# Altium footprint library InactivityTracker.PcbLib: 5 footprints
Each footprint in its own frame and in the unit in brackets; x right, y up, seen from the top. Pads: shape width x height; smd on the part's side, far side on the other; paste and mask are expansions set on the pad; w line width, h text height; cw(c..) or ccw(c..) is an arc to the next point about the centre after c.
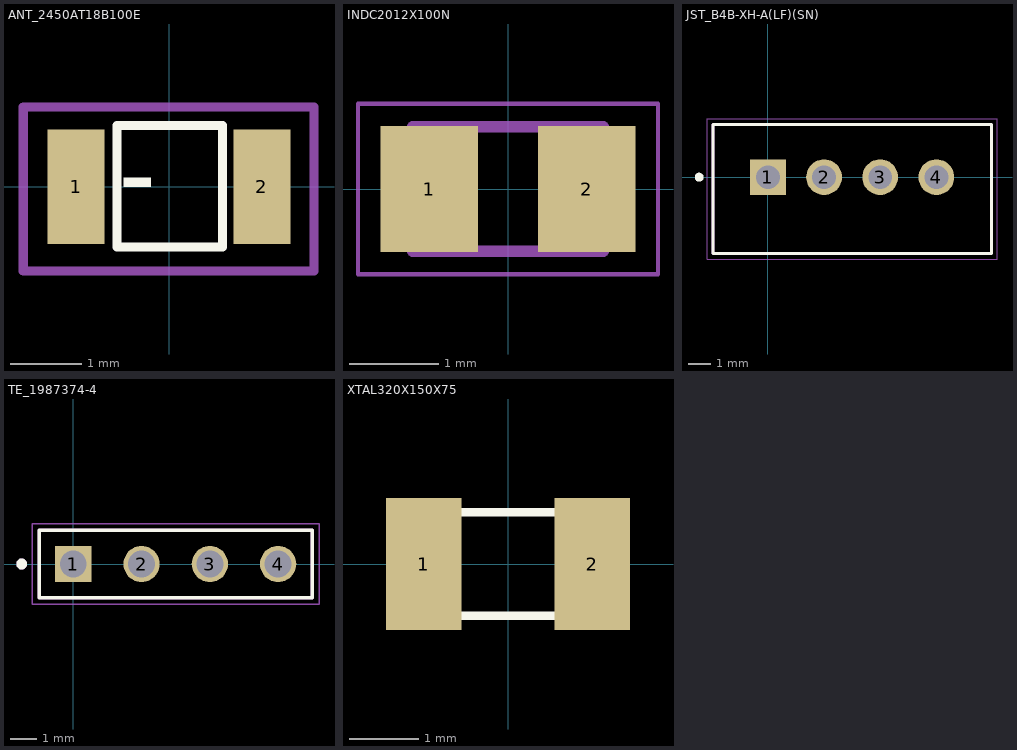
[diagram p0: the footprints below, top view; thin cyan lines are the x and y axes]

## ANT_2450AT18B100E [mm]
pads (2):
  rect 0.8x1.6 smd: 1(-1.3,0) 2(1.3,0)
Top Overlay:
  region: -0.254,0 -0.635,0 -0.635,0.127 -0.254,0.127
  lines w0.127: -0.73,-0.84 -0.73,0.86 0.75,0.86 0.75,-0.84 -0.73,-0.84
Mechanical 15:
  lines w0.127: -2.04,1.12 -2.04,-1.18 2.03,-1.18 2.03,1.12 -2,1.12
3D body "2450AT18B100E--3DModel-STEP-56544.STEP": height 0.8, standoff -0.8, extent -1.6,-0.698 1.6,0.699

## INDC2012X100N [mm]
pads (2):
  rect 1.1x1.42 smd: 1(-0.885,0) 2(0.885,0)
Mechanical 13:
  lines w0.127: -1.07,-0.7 -1.07,0.7 1.07,0.7 1.07,-0.7 -1.07,-0.7
Mechanical 15:
  lines w0.05: -1.685,-0.96 -1.685,0.96 1.685,0.96 1.685,-0.96 -1.685,-0.96

## JST_B4B-XH-A(LF)(SN) [mm]
pads (4):
  rect 1.59x1.59 hole 1.06: 1(0,0)
  round 1.59 hole 1.06: 2(2.5,0) 3(5,0) 4(7.5,0)
Top Overlay:
  circle w0.2: c-3.06,0 r0.1
  lines w0.127: -2.45,-3.4 9.95,-3.4 9.95,2.35 -2.45,2.35 -2.45,-3.4
Mechanical 13:
  lines w0.127: -2.45,-3.4 9.95,-3.4 9.95,2.35 -2.45,2.35 -2.45,-3.4
Mechanical 15:
  lines w0.05: -2.7,-3.65 10.2,-3.65 10.2,2.6 -2.7,2.6 -2.7,-3.65
3D body "B4B-XH-A-LF--SN---3DModel-STEP-56544.STEP": height 7.01, standoff -3.39, extent -2.517,-3.383 9.883,2.367

## TE_1987374-4 [mm]
pads (4):
  rect 1.35x1.35 hole 1: 1(0,0)
  round 1.35 hole 1: 2(2.54,0) 3(5.08,0) 4(7.62,0)
Top Overlay:
  circle w0.2: c-1.92,0 r0.1
  lines w0.127: -1.27,-1.25 -1.27,1.25 8.89,1.25 8.89,-1.25 -1.27,-1.25
Mechanical 13:
  circle w0.2: c-1.92,0 r0.1
  lines w0.127: -1.27,-1.25 -1.27,1.25 8.89,1.25 8.89,-1.25 ; -1.27,-1.25 8.89,-1.25 ; -1.27,-1.25 8.89,-1.25
Mechanical 15:
  lines w0.05: -1.52,-1.5 -1.52,1.5 9.14,1.5 9.14,-1.5 -1.52,-1.5

## XTAL320X150X75 [mil]
pads (2):
  rect 43x75 smd: 1(-48,0) 2(48,0)
Top Overlay:
  lines w5: -63,-29.5 63,-29.5 63,29.5 -63,29.5 -63,-29.5